# Altium footprint library 电源控制板---改版.PcbLib: 18 footprints (part 2 of 2)
Each footprint in its own frame and in the unit in brackets; x right, y up, seen from the top. Pads: shape width x height; smd on the part's side, far side on the other; paste and mask are expansions set on the pad; w line width, h text height; cw(c..) or ccw(c..) is an arc to the next point about the centre after c.
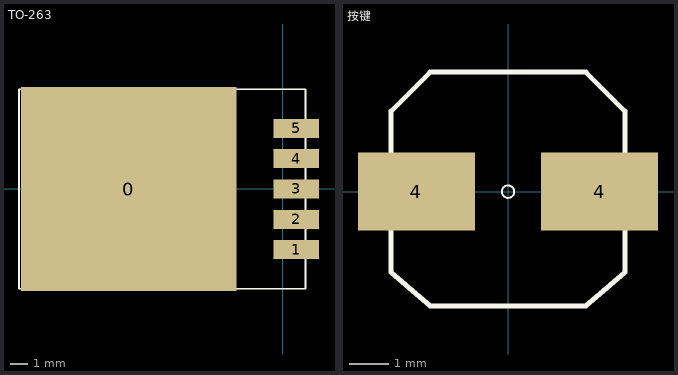
[diagram p1: the footprints below, top view; thin cyan lines are the x and y axes]

## TO-263 [mil]
pads (6):
  rect 475x450 smd: 0(-340.03,-0.49)
  rect 100x42 smd: 1(29.97,-134.5) 2(29.97,-67.49) 3(29.97,-0.49) 4(29.97,66.5) 5(29.97,133.51)
Top Overlay:
  lines w4: -582.03,-220.49 49.97,-220.49 49.97,219.51 -582.03,219.51 -582.03,-220.49

## 按键 [mm]
pads (2):
  rect 3x2 smd: 4(-2.35,0) 4(2.35,0)
Top Overlay:
  circle w0.05: c0,0 r0.159
  lines w0.127: -3,-0.8 -3,-2.069 -2,-2.931 2,-2.931 3,-2.069 3,-0.8 ; -3,0.8 -3,2.069 -2,3.069 2,3.069 3,2.069 3,0.8 ; -3.2,-0.8 -1.5,-0.8 -1.5,0.8 -3.2,0.8 -3.2,-0.8 ; 1.5,-0.8 3.2,-0.8 3.2,0.8 1.5,0.8 1.5,-0.8